# Altium schematic symbol library MySchLib.SCHLIB: 41 symbols
Pins are listed as number, name and electrical type; pins without a type are passive.

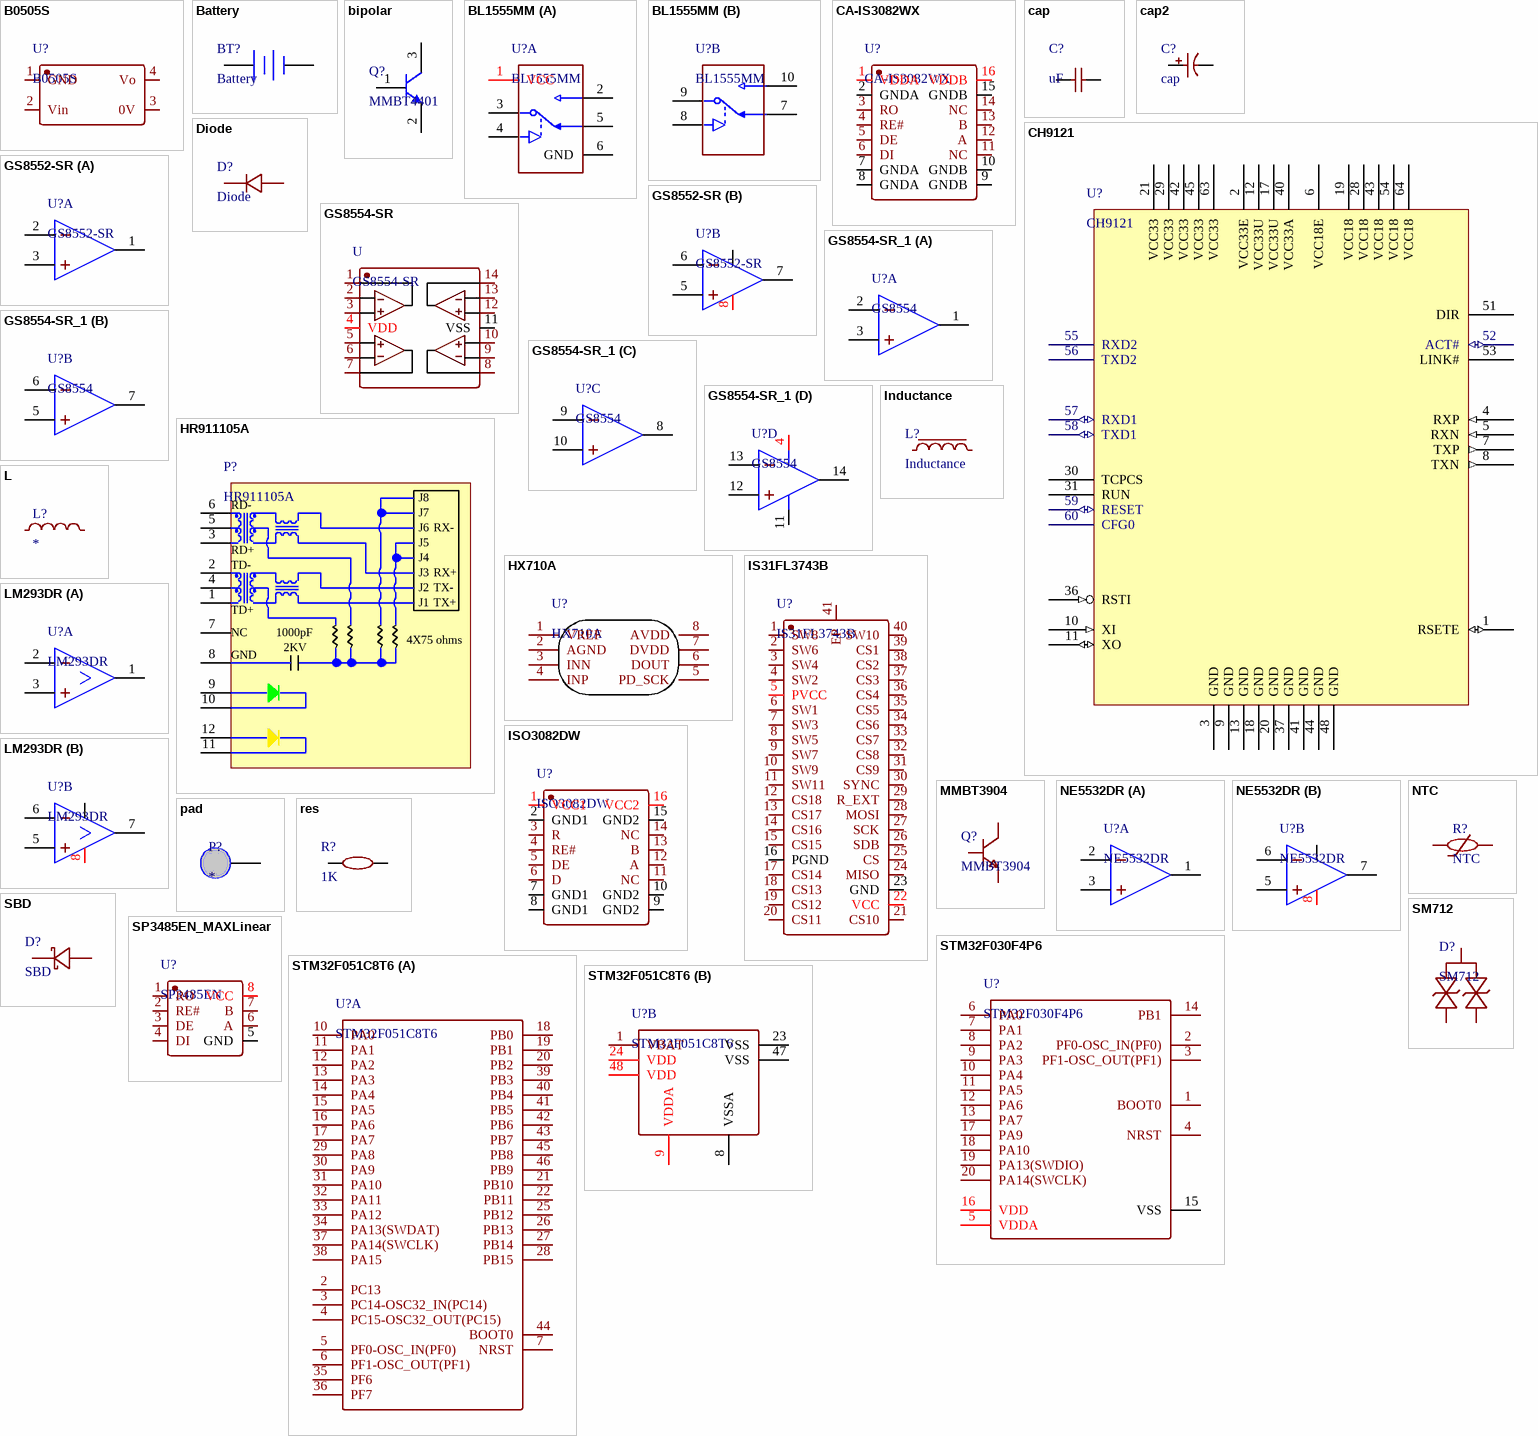
[diagram p0: symbols B0505S to STM32F051C8T6]

## B0505S
designator U?
pins: 1 GND, 2 Vin, 3 0V, 4 Vo

## Battery
designator BT?
pins: 1 +, 2 -

## bipolar
designator Q?, comment MMBT4401
pins: 1 B, 2 E, 3 C

## BL1555MM
designator U?
part A pins: 1 VCC, 2 NO1, 3 COM1, 4 IN1, 5 NC1, 6 GND
part B pins: 7 NC2, 8 IN2, 9 COM2, 10 NO2

## CA-IS3082WX
designator U?
CA-IS3082WX/SOIC-16/Chipanalog
footprint SOIC-16
pins: 1 VDDA, 2 GNDA, 3 RO, 4 RE#, 5 DE, 6 DI, 7 GNDA, 8 GNDA, 9 GNDB, 10 GNDB, 11 NC, 12 A, 13 B, 14 NC, 15 GNDB, 16 VDDB

## cap
designator C?, comment uF
pins: 1, 2

## cap2
designator C?, comment cap
pins: 1, 2

## CH9121
designator U?
CH9121/LQFP-64_10x10x05P/沁恒
footprint LQFP-64_10x10x05P
pins: 1 RSETE (io), 2 VCC33E (power), 3 GND (power), 4 RXP (in), 5 RXN (in), 6 VCC18E (power), 7 TXP (out), 8 TXN (out), 9 GND (power), 10 XI (in), 11 XO (io), 12 VCC33U (power), 13 GND (power), 17 VCC33U (power), 18 GND (power), 19 VCC18 (power), 20 GND (power), 21 VCC33 (power), 28 VCC18 (power), 29 VCC33 (power), 30 TCPCS, 31 RUN, 36 RSTI (in), 37 GND (power), 40 VCC33A (power), 41 GND (power), 42 VCC33 (power), 43 VCC18 (power), 44 GND (power), 45 VCC33 (power), 48 GND (power), 51 DIR, 52 ACT# (io), 53 LINK#, 54 VCC18 (power), 55 RXD2, 56 TXD2, 57 RXD1 (io), 58 TXD1 (io), 59 RESET (io), 60 CFG0, 63 VCC33 (power), 64 VCC18 (power)

## Diode
designator D?
pins: 1 K, 2 A

## GS8552-SR
designator U?
part A pins: 1 OUTA, 2 INA-, 3 INA+
part B pins: 4, 5 INB+, 6 INB-, 7 OUTB, 8 +

## GS8554-SR
designator U
pins: 1 OUTA, 2 INA-, 3 INA+, 4 VDD, 5 INB+, 6 INB-, 7 OUTB, 8 OUTC, 9 INC-, 10 INC+, 11 VSS, 12 IND+, 13 IND-, 14 OUTD

## GS8554-SR_1
designator U?, comment GS8554
part A pins: 1 OUTA, 2 INA-, 3 INA+
part B pins: 5 INB+, 6 INB-, 7 OUTB
part C pins: 8 OUTC, 9 INC-, 10 INC+
part D pins: 4 VDD, 11 VSS, 12 IND+, 13 IND-, 14 OUTD

## HR911105A
designator P?
HR911105A/RJ45/汉仁
footprint RJ45A
footprint RJ45A
pins: 1, 2, 3, 4, 5, 6, 7, 8, 9, 10, 11, 12
text: J8; RD-; J7; J6; RX-; J5; RD+; J4; TD-; J3; RX+; J2; TX-; J1; TX+; TD+; NC; 1000pF; 4X75 ohms; 2KV; GND

## HX710A
designator U?
pins: 1 VREF, 2 AGND, 3 INN, 4 INP, 5 PD_SCK, 6 DOUT, 7 DVDD, 8 AVDD

## Inductance
designator L?
pins: 1, 2

## IS31FL3743B
designator U?
IS31FL3743B/40-UQFN/LM
pins: 1 SW8, 2 SW6, 3 SW4, 4 SW2, 5 PVCC, 6 SW1, 7 SW3, 8 SW5, 9 SW7, 10 SW9, 11 SW11, 12 CS18, 13 CS17, 14 CS16, 15 CS15, 16 PGND, 17 CS14, 18 CS13, 19 CS12, 20 CS11, 21 CS10, 22 VCC, 23 GND, 24 MISO, 25 CS, 26 SDB, 27 SCK, 28 MOSI, 29 R_EXT, 30 SYNC, 31 CS9, 32 CS8, 33 CS7, 34 CS6, 35 CS5, 36 CS4, 37 CS3, 38 CS2, 39 CS1, 40 SW10, 41 EP

## ISO3082DW
designator U?
ISO3082DW/SOIC-16/TI
footprint SOIC-16
pins: 1 VCC1, 2 GND1, 3 R, 4 RE#, 5 DE, 6 D, 7 GND1, 8 GND1, 9 GND2, 10 GND2, 11 NC, 12 A, 13 B, 14 NC, 15 GND2, 16 VCC2

## L
designator L?
pins: 1, 2

## LM293DR
designator U?
part A pins: 1 OUTA, 2 INA-, 3 INA+
part B pins: 4 GND, 5 INB+, 6 INB-, 7 OUTB, 8 +

## MMBT3904
designator Q?
pins: 1 B, 2 E, 3 C

## NE5532DR
designator U?
part A pins: 1 OUTA, 2 INA-, 3 INA+
part B pins: 4, 5 INB+, 6 INB-, 7 OUTB, 8 +

## NTC
designator R?
pins: 1, 2

## pad
designator P?
pins: 1

## res
designator R?, comment 1K
pins: 1, 2

## SBD
designator D?
pins: 1 A, 2 K

## SM712
designator D?
SM712/SOT-23/富芯森美
footprint SOT-23
pins: 1, 2, 3

## SP3485EN_MAXLinear
designator U?, comment SP3485EN
SP3485EN_MAXLinear/SOIC-8/MAXLinear
footprint SOIC-8
pins: 1 RO, 2 RE#, 3 DE, 4 DI, 5 GND, 6 A, 7 B, 8 VCC

## STM32F030F4P6
designator U?
STM32F030F4P6/TSSOP-20/ST
footprint TSSOP-20
pins: 1 BOOT0, 2 PF0-OSC_IN(PF0), 3 PF1-OSC_OUT(PF1), 4 NRST, 5 VDDA, 6 PA0, 7 PA1, 8 PA2, 9 PA3, 10 PA4, 11 PA5, 12 PA6, 13 PA7, 14 PB1, 15 VSS, 16 VDD, 17 PA9, 18 PA10, 19 PA13(SWDIO), 20 PA14(SWCLK)

## STM32F051C8T6
designator U?
part A pins: 2 PC13, 3 PC14-OSC32_IN(PC14), 4 PC15-OSC32_OUT(PC15), 5 PF0-OSC_IN(PF0), 6 PF1-OSC_OUT(PF1), 7 NRST, 10 PA0, 11 PA1, 12 PA2, 13 PA3, 14 PA4, 15 PA5, 16 PA6, 17 PA7, 18 PB0, 19 PB1, 20 PB2, 21 PB10, 22 PB11, 25 PB12, 26 PB13, 27 PB14, 28 PB15, 29 PA8, 30 PA9, 31 PA10, 32 PA11, 33 PA12, 34 PA13(SWDAT), 35 PF6, 36 PF7, 37 PA14(SWCLK), 38 PA15, 39 PB3, 40 PB4, 41 PB5, 42 PB6, 43 PB7, 44 BOOT0, 45 PB8, 46 PB9
part B pins: 1 VBAT, 8 VSSA, 9 VDDA, 23 VSS, 24 VDD, 47 VSS, 48 VDD

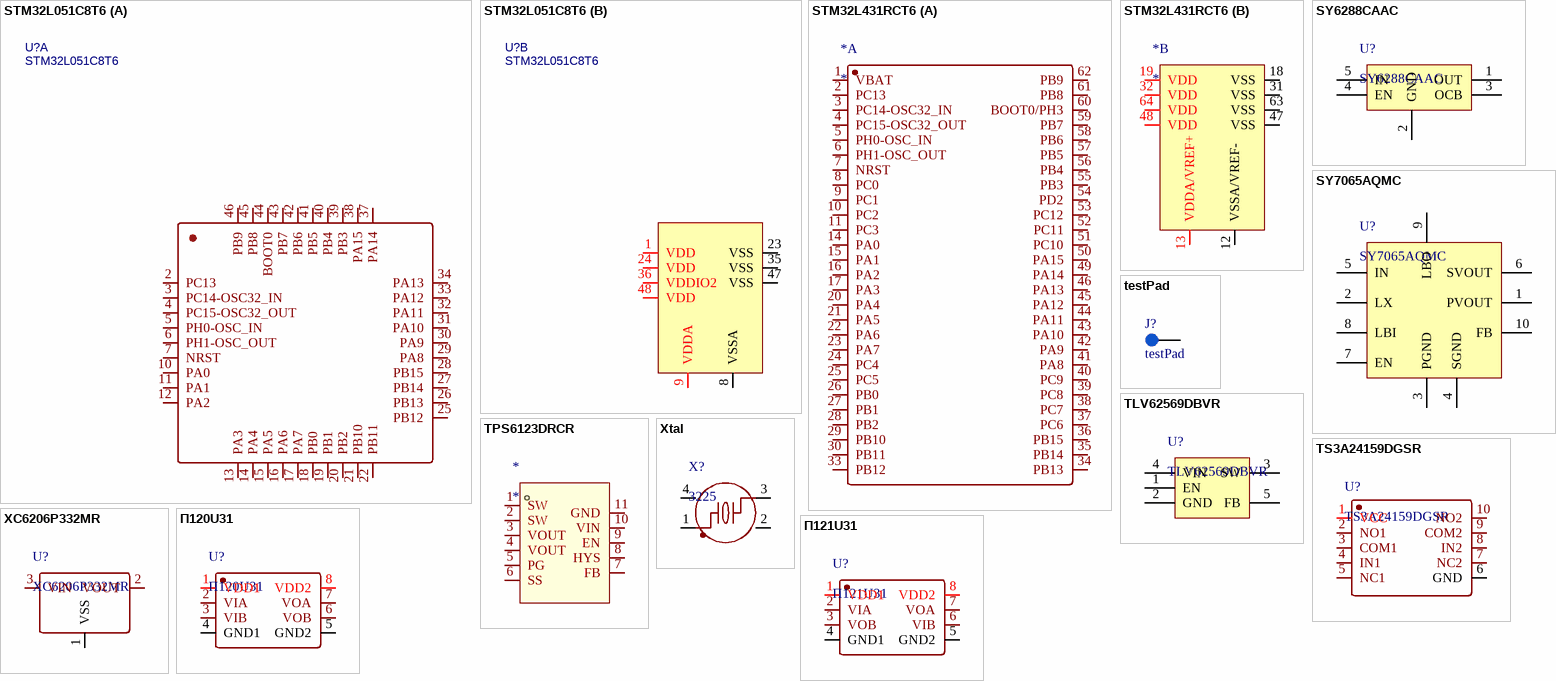
[diagram p1: symbols STM32L051C8T6 to Π121U31]

## STM32L051C8T6
designator U?
BOM_Manufacturer: STMicroelectronics; BOM_Supplier: LCSC; BOM_Manufacturer Part: STM32L051C8T6; BOM_Supplier Part: C110878; BOM_JLCPCB Part Class: Extended Part; spicePre: U; spiceSymbolName: STM32L051C8T6
footprint LQFP-48_L7.0-W7.0-P0.50-LS9.0-BL
part A pins: 2 PC13, 3 PC14-OSC32_IN, 4 PC15-OSC32_OUT, 5 PH0-OSC_IN, 6 PH1-OSC_OUT, 7 NRST, 10 PA0, 11 PA1, 12 PA2, 13 PA3, 14 PA4, 15 PA5, 16 PA6, 17 PA7, 18 PB0, 19 PB1, 20 PB2, 21 PB10, 22 PB11, 25 PB12, 26 PB13, 27 PB14, 28 PB15, 29 PA8, 30 PA9, 31 PA10, 32 PA11, 33 PA12, 34 PA13, 37 PA14, 38 PA15, 39 PB3, 40 PB4, 41 PB5, 42 PB6, 43 PB7, 44 BOOT0, 45 PB8, 46 PB9
part B pins: 1 VDD, 8 VSSA, 9 VDDA, 23 VSS, 24 VDD, 35 VSS, 36 VDDIO2, 47 VSS, 48 VDD

## STM32L431RCT6
designator *
part A pins: 1 VBAT, 2 PC13, 3 PC14-OSC32_IN, 4 PC15-OSC32_OUT, 5 PH0-OSC_IN, 6 PH1-OSC_OUT, 7 NRST, 8 PC0, 9 PC1, 10 PC2, 11 PC3, 14 PA0, 15 PA1, 16 PA2, 17 PA3, 20 PA4, 21 PA5, 22 PA6, 23 PA7, 24 PC4, 25 PC5, 26 PB0, 27 PB1, 28 PB2, 29 PB10, 30 PB11, 33 PB12, 34 PB13, 35 PB14, 36 PB15, 37 PC6, 38 PC7, 39 PC8, 40 PC9, 41 PA8, 42 PA9, 43 PA10, 44 PA11, 45 PA12, 46 PA13, 49 PA14, 50 PA15, 51 PC10, 52 PC11, 53 PC12, 54 PD2, 55 PB3, 56 PB4, 57 PB5, 58 PB6, 59 PB7, 60 BOOT0/PH3, 61 PB8, 62 PB9
part B pins: 12 VSSA/VREF-, 13 VDDA/VREF+, 18 VSS, 19 VDD, 31 VSS, 32 VDD, 47 VSS, 48 VDD, 63 VSS, 64 VDD

## SY6288CAAC
designator U?
SY6288CAAC/SOT-23-5/矽力杰
footprint SOT-23-5
pins: 1 OUT, 2 GND, 3 OCB, 4 EN, 5 IN

## SY7065AQMC
designator U?
footprint QFN-10(2x2)
pins: 1 PVOUT, 2 LX, 3 PGND, 4 SGND, 5 IN, 6 SVOUT, 7 EN, 8 LBI, 9 LBO, 10 FB

## testPad
designator J?
footprint testPad
pins: 1 testPad

## TLV62569DBVR
designator U?
TLV62569DBVR/SOT-23-5/TI
footprint SOT-23-5
pins: 1 EN, 2 GND, 3 SW, 4 VIN, 5 FB

## TPS6123DRCR
designator *
pins: 1 SW, 2 SW, 3 VOUT, 4 VOUT, 5 PG, 6 SS, 7 FB, 8 HYS, 9 EN, 10 VIN, 11 GND

## TS3A24159DGSR
designator U?
TS3A24159DGSR/MSOP-10/TI
footprint MSOP-10
pins: 1 VCC, 2 NO1, 3 COM1, 4 IN1, 5 NC1, 6 GND, 7 NC2, 8 IN2, 9 COM2, 10 NO2

## XC6206P332MR
designator U?
footprint SOT-23
pins: 1 VSS, 2 VOUT, 3 VIN

## Xtal
designator X?, comment 3225
8MHz/SMD3225-4P/±10ppm/12pF/YXC
footprint SMD3225_4P
pins: 1, 2 GND, 3, 4 GND

## Π120U31
designator U?
pins: 1 VDD1, 2 VIA, 3 VIB, 4 GND1, 5 GND2, 6 VOB, 7 VOA, 8 VDD2

## Π121U31
designator U?
footprint SOIC-8
pins: 1 VDD1, 2 VIA, 3 VOB, 4 GND1, 5 GND2, 6 VIB, 7 VOA, 8 VDD2